# Altium schematic symbol library Пъезоизлучатели.SchLib: 2 symbols
Pins are listed as number, name and electrical type; pins without a type are passive.

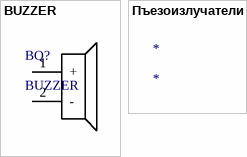
[diagram p0: symbols BUZZER to Пъезоизлучатели]

## BUZZER
designator BQ?
pins: 1 +, 2 -

## Пъезоизлучатели
designator *